# Altium schematic symbol library MSD1278.SchLib: 1 symbol
Pins are listed as number, name and electrical type; pins without a type are passive.

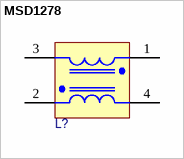
[diagram p0: symbol MSD1278]

## MSD1278
designator L?
pins: 1, 2, 3, 4